# Altium footprint library Daxxn_Switches.PcbLib: 22 footprints (part 1 of 2)
Each footprint in its own frame and in the unit in brackets; x right, y up, seen from the top. Pads: shape width x height; smd on the part's side, far side on the other; paste and mask are expansions set on the pad; w line width, h text height; cw(c..) or ccw(c..) is an arc to the next point about the centre after c.
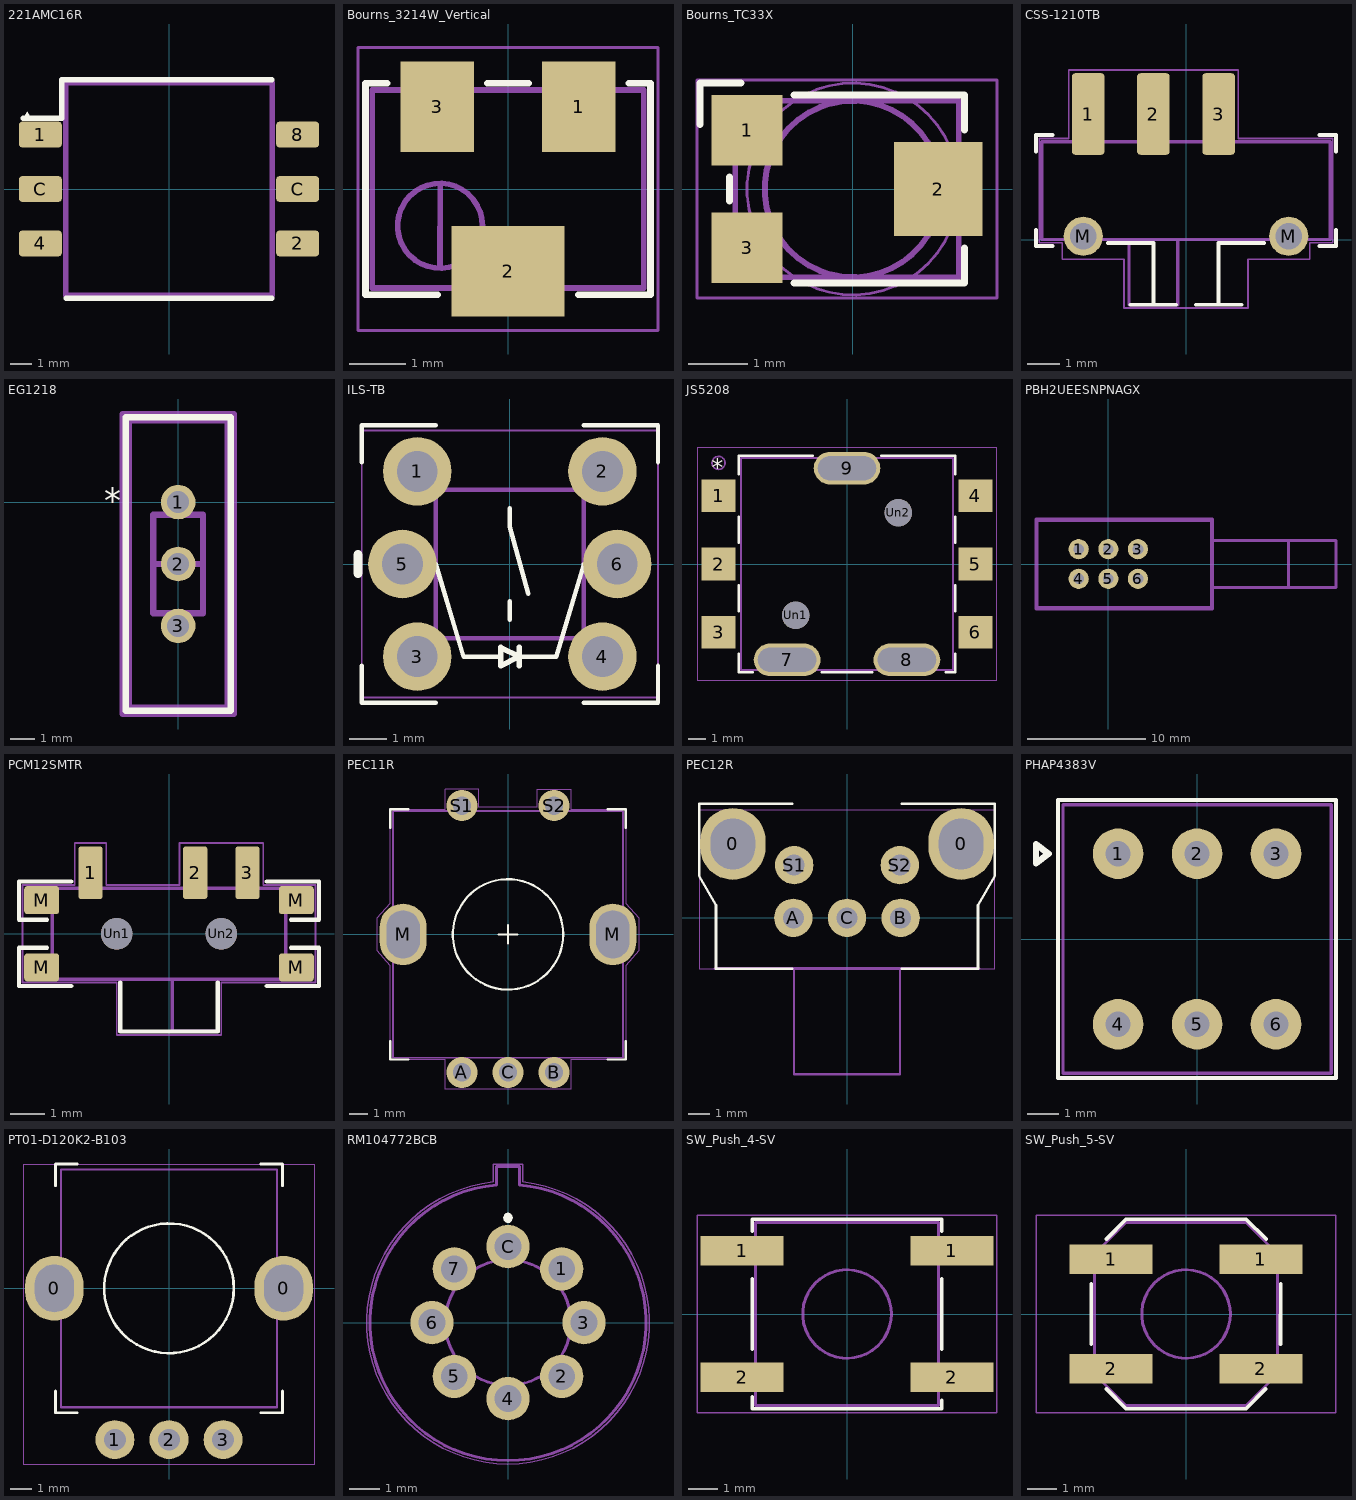
[diagram p0: the footprints below, top view; thin cyan lines are the x and y axes]

## 221AMC16R [mm]
pads (6):
  rrect25% 2x1.2 smd: 1(-6,2.54) 2(6,-2.54) 4(-6,-2.54) 8(6,2.54) C(-6,0) C(6,0)
F.SilkS:
  region: -6.425,3.3 -6.8,3.3 -6.625,3.6
  lines w0.254: -6.8,3.3 -5,3.3 -5,5.1 4.8,5.1 ; -4.8,-5.1 4.8,-5.1
F.Fab:
  lines w0.254: -4.825,-4.955 -4.825,4.955 4.825,4.955 4.825,-4.955 -4.825,-4.955
  text "'.Designator'" at -1.037,-0.535 h0.25

## Bourns_3214W_Vertical [mm]
pads (3):
  rect 1.3x1.6 smd: 1(1.25,1.45) 3(-1.25,1.45)
  rect 2x1.6 smd: 2(0,-1.45)
F.SilkS:
  lines w0.12: -2.14,1.87 -2.52,1.87 -2.52,-1.87 -1.24,-1.87 ; -0.36,1.87 0.36,1.87 ; 1.24,-1.87 2.52,-1.87 2.52,1.87 2.14,1.87
F.CrtYd:
  lines w0.05: -2.65,-2.5 -2.65,2.5 2.65,2.5 2.65,-2.5 -2.65,-2.5
F.Fab:
  circle w0.1: c-1.2,-0.65 r0.75
  lines w0.1: -2.4,-1.75 2.4,-1.75 2.4,1.75 -2.4,1.75 -2.4,-1.75 ; -1.2,-1.393 -1.199,0.092 -1.2,-1.393
  text "'.Designator'" at -1.888,-0.564 h0.6

## Bourns_TC33X [mm]
pads (3):
  rect 1.2x1.2 smd: 1(-1.8,1) 3(-1.8,-1)
  rect 1.5x1.6 smd: 2(1.45,0)
F.SilkS:
  lines w0.12: -2.6,1.1 -2.6,1.8 -1.9,1.8 ; -2.1,-0.2 -2.1,0.2 ; -1,-1.6 1.9,-1.6 1.9,-1 ; -1,1.6 1.9,1.6 1.9,1
Dwgs.User:
  circle w0.05: c0,0 r1.8
F.CrtYd:
  lines w0.05: -2.65,-1.85 -2.65,1.85 2.45,1.85 2.45,-1.85 -2.65,-1.85
F.Fab:
  circle w0.1: c0,0 r1.5
  lines w0.1: -2,-1.5 -2,0.75 -1.25,1.5 1.8,1.5 1.8,-1.5 -2,-1.5
  text "'.Designator'" at -2.833,-0.588 h0.7
Cmts.User:
  text "Wiper may be / anywhere within / circle shown" at -0.963,0.416 h0.15

## CSS-1210TB [mm]
pads (5):
  rrect20% 1x2.5 smd: 1(-3,3.85) 2(-1,3.85) 3(1,3.85)
  round 1.2 hole 0.8: M(-3.15,0.1) M(3.15,0.1)
F.SilkS:
  lines w0.12: -4.6,0.3 -4.6,-0.2 -4.1,-0.2 ; -4.6,2.7 -4.6,3.2 -4.1,3.2 ; -2.4,-0.1 -1,-0.1 -1,-2 ; -1.7,-2 -1,-2 ; -0.3,-2 -1,-2 ; 0.3,-2 1,-2 ; 1.7,-2 1,-2 ; 2.4,-0.1 1,-0.1 1,-2 ; 4.1,-0.2 4.6,-0.2 4.6,0.3 ; 4.1,3.2 4.6,3.2 4.6,2.7
F.CrtYd:
  lines w0.05: -4.5,-0.1 -4.5,3.1 -3.6,3.1 -3.6,5.2 1.6,5.2 1.6,3.1 4.5,3.1 4.5,-0.1 3.8,-0.1 3.8,-0.6 1.9,-0.6 1.9,-2.1 -1.9,-2.1 -1.9,-0.6 -3.8,-0.6 -3.8,-0.1 -4.5,-0.1
F.Fab:
  lines w0.1: -4.425,0 -4.425,3 4.425,3 4.425,0 -4.425,0 ; -1.75,-2 -1.75,0 -0.25,0 -0.25,-2 -1.75,-2
  text "'.Designator'" at -1.037,2.065 h0.25

## EG1218 [mil]
pads (3):
  round 55 hole 35: 1(0,0) 2(0,-98.43) 3(0,-196.85)
F.SilkS:
  lines w10: -83.5,-331.93 -83.5,135.07 83.5,135.07 83.5,-331.93 -83.5,-331.93
  text "*" at -117.64,-17.15 h39.37
F.CrtYd:
  lines w10: -88.5,-336.93 -88.5,140.07 88.5,140.07 88.5,-336.93 -88.5,-336.93
F.Fab:
  lines w10: -39.5,-176.93 -39.5,-19.93 39.5,-19.93 39.5,-176.93 ; -39.5,-176.93 -39.5,-98.43 39.5,-98.43 39.5,-176.93 ; -39.5,-176.93 39.5,-176.93 ; -39.5,-176.93 39.5,-176.93 ; -78.5,-326.93 -78.5,130.07 78.5,130.07 78.5,-326.93 -78.5,-326.93

## ILS-TB [mm]
pads (6):
  round 1.85 hole 1.1: 1(-2.5,2.5) 2(2.5,2.5) 3(-2.5,-2.5) 4(2.5,-2.5) 5(-2.9,0) 6(2.9,0)
F.SilkS:
  lines w0.12: -4,-2.75 -4,-3.75 -2,-3.75 ; -4,2.75 -4,3.75 -2,3.75 ; -2,0 -1.25,-2.5 -0.25,-2.5 ; 0,-1.5 0,-1 ; 0,1.5 0,1 0.5,-0.8 ; 0.25,-2.5 1.25,-2.5 2,0 ; 2,-3.75 4,-3.75 4,-2.75 ; 2,3.75 4,3.75 4,2.75
  lines w0.15: 0.25,-2.75 0.25,-2.25 ; -0.25,-2.75 0.25,-2.5 -0.25,-2.25 -0.25,-2.75
  lines w0.254: -4.1,-0.25 -4.1,0.25
F.CrtYd:
  lines w0.05: -4,-3.6 -4,3.6 4,3.6 4,-3.6 -4,-3.6
F.Fab:
  lines w0.12: -2,-2 -2,2 2,2 2,-2 -2,-2
  text "'.Designator'" at -4.047,-5.84 h1

## JS5208 [mm]
pads (11):
  rect 2x1.9 smd: 1(-7.5,4) 2(-7.5,0) 3(-7.5,-4) 4(7.5,4) 5(7.5,0) 6(7.5,-4)
  rrect100% 3.9x1.9 hole 1.4 slot 3.4 at 0 deg: 7(-3.5,-5.6) 8(3.5,-5.6) 9(0,5.6)
  round 1.6 hole 1.6: Un1(-3,-3) Un2(3,3)
F.SilkS:
  lines w0.12: -6.325,-5.234 -6.325,-6.325 -5.5,-6.325 ; -6.325,-2.767 -6.325,-1.234 ; -6.325,1.234 -6.325,2.767 ; -6.325,5.234 -6.325,6.325 -2,6.325 ; -1.5,-6.325 1.5,-6.325 ; 2,6.325 6.325,6.325 6.325,5.234 ; 5.75,-6.325 6.325,-6.325 6.325,-5.234 ; 6.325,-2.767 6.325,-1.234 ; 6.325,1.234 6.325,2.767
  text "*" at -7.898,5.154 h1
B.SilkS:
  circle w0.12: c-7.5,5.9 r0.381
F.CrtYd:
  lines w0.05: -8.763,-6.8 -8.763,6.8 8.763,6.8 8.763,-6.8 -8.763,-6.8
F.Fab:
  circle w0.1: c-7.506,5.905 r0.381
  lines w0.1: -6.198,-6.198 -6.198,6.198 6.198,6.198 6.198,-6.198 -6.198,-6.198
  text "'.Designator'" at -2.073,0.03 h0.5

## PBH2UEESNPNAGX [mm]
pads (6):
  round 1.7 hole 0.9: 1(-2.5,1.25) 2(0,1.25) 3(2.5,1.25) 4(-2.5,-1.25) 5(0,-1.25) 6(2.5,-1.25)
B.SilkS:
  lines w0.254: -1.55,-1.25 -0.95,-1.25 ; -1.55,1.25 -0.95,1.25 ; 0.95,-1.25 1.55,-1.25 ; 0.95,1.25 1.55,1.25
F.CrtYd:
  lines w0.254: -6.1,-3.8 -6.1,3.8 8.8,3.8 8.8,-3.8 -6.1,-3.8
F.Fab:
  lines w0.254: 15.2,-2 15.2,2 ; -6,-3.65 -6,3.65 2.5,3.65 8.7,3.65 8.7,-3.65 -6,-3.65 ; 8.7,-2 8.7,2 19.2,2 19.2,-2 8.7,-2
  text "'.Designator'" at -1.037,0.065 h0.25

## PCM12SMTR [mm]
pads (9):
  rrect20% 0.7x1.5 smd: 1(-2.25,1.75) 2(0.75,1.75) 3(2.25,1.75)
  rrect20% 1x0.8 smd: M(-3.65,-0.965) M(-3.65,0.965) M(3.65,-0.965) M(3.65,0.965)
  round 0.9 hole 0.9: Un1(-1.5,0) Un2(1.5,0)
F.SilkS:
  lines w0.12: -3.5,-0.4 -4.3,-0.4 -4.3,-1.5 -2.8,-1.5 ; -3.5,0.4 -4.3,0.4 -4.3,1.5 -2.8,1.5 ; -1.4,-1.4 -1.4,-2.8 1.4,-2.8 1.4,-1.4 ; 2.8,-1.5 4.3,-1.5 4.3,-0.4 3.5,-0.4 ; 2.8,1.5 4.3,1.5 4.3,0.4 3.5,0.4
F.CrtYd:
  lines w0.05: -4.2,-1.4 -1.5,-1.4 -1.5,-2.9 1.5,-2.9 1.5,-1.4 4.2,-1.4 4.2,1.4 2.7,1.4 2.7,2.6 0.3,2.6 0.3,1.4 -1.8,1.4 -1.8,2.6 -2.7,2.6 -2.7,1.4 -4.2,1.4 -4.2,-1.4
F.Fab:
  lines w0.1: -3.35,-1.3 -3.35,1.3 3.35,1.3 3.35,-1.3 -3.35,-1.3 ; 0.1,-2.8 0.1,-1.3 1.4,-1.3 1.4,-2.8 0.1,-2.8
  text "'.Designator'" at -1.037,0.565 h0.25

## PEC11R [mm]
pads (7):
  round 1.7 hole 1: A(-2.5,-7.5) B(2.5,-7.5) C(0,-7.5) S1(-2.5,7) S2(2.5,7)
  rrect100% 2.55x3.35 hole 2.6 slot 1.8 at 0 deg: M(-5.7,0) M(5.7,0)
F.SilkS:
  circle w0.12: c0,0 r3
  lines w0.12: -6.4,-5.8 -6.4,-6.8 -5.4,-6.8 ; -6.4,5.8 -6.4,6.8 -5.4,6.8 ; -0.5,0 0.5,0 ; 0,0 0,-0.5 0,0.5 ; 5.4,-6.8 6.4,-6.8 6.4,-5.8 ; 5.4,6.8 6.4,6.8 6.4,5.8
F.CrtYd:
  lines w0.05: -7.1,-0.9 -6.4,-1.7 -6.4,-6.8 -3.4,-6.8 -3.4,-8.4 3.4,-8.4 3.4,-6.8 6.4,-6.8 6.4,-1.7 7.1,-0.9 7.1,0.9 6.4,1.7 6.4,6.8 3.4,6.8 3.4,7.9 1.6,7.9 1.6,6.9 -1.6,6.9 -1.6,7.9 -3.4,7.9 -3.4,6.8 -6.4,6.8 -6.4,1.7 -7.1,0.9 -7.1,-0.9
F.Fab:
  lines w0.1: -6.25,-6.7 -6.25,6.7 6.25,6.7 6.25,-6.7 -6.25,-6.7
  text "'.Designator'" at -4.047,-2.14 h1

## PEC12R [mm]
pads (7):
  rrect100% 3.1x3.4 hole 2.4 slot 2.1 at 0 deg: 0(-5.4,3.5) 0(5.4,3.5)
  round 1.82 hole 1: A(-2.54,0) B(2.54,0) C(0,0) S1(-2.5,2.5) S2(2.5,2.5)
F.SilkS:
  lines w0.12: -2.6,-2.4 -6.2,-2.4 -6.2,0.6 -7,2 -7,5.4 -2.6,5.4 ; 2.6,-2.4 6.2,-2.4 6.2,0.6 7,2 7,5.4 2.6,5.4
F.CrtYd:
  lines w0.05: -7,-2.4 -7,5.1 7,5.1 7,-2.4 -7,-2.4 ; -2.5,-7.4 -2.5,-2.4 2.5,-2.4 2.5,-7.4 -2.5,-7.4
F.Fab:
  lines w0.1: -2.5,-7.4 -2.5,-2.4 2.5,-2.4 2.5,-7.4 -2.5,-7.4
  lines w0.15: -6.25,-2.4 6.25,-2.4
  text "'.Designator'" at -4.047,8.05 h1

## PHAP4383V [mm]
pads (6):
  round 1.6 hole 0.8: 1(-2.5,2.7) 2(0,2.7) 3(2.5,2.7) 4(-2.5,-2.7) 5(0,-2.7) 6(2.5,-2.7)
F.SilkS:
  lines w0.12: -4.4,-4.4 -4.4,4.4 4.4,4.4 4.4,-4.4 -4.4,-4.4
  lines w0.2: -5.1,2.4 -4.7,2.7 -5.1,3 -5.1,2.4
F.Fab:
  lines w0.1: -4.25,-4.25 -4.25,4.25 4.25,4.25 4.25,-4.25 -4.25,-4.25
  text "'.Designator'" at -3.073,-0.068 h0.75

## PT01-D120K2-B103 [mm]
pads (5):
  rrect100% 2.7x3 hole 2.2 slot 1.8 at 0 deg: 0(-5.3,0) 0(5.3,0)
  round 1.8 hole 1: 1(-2.5,-7) 2(0,-7) 3(2.5,-7)
F.SilkS:
  circle w0.12: c0,0 r3
  lines w0.12: -5.25,-4.75 -5.25,-5.75 -4.25,-5.75 ; -5.25,4.75 -5.25,5.75 -4.25,5.75 ; 4.25,-5.75 5.25,-5.75 5.25,-4.75 ; 4.25,5.75 5.25,5.75 5.25,4.75
F.CrtYd:
  lines w0.05: -6.75,-8.128 -6.75,5.715 6.75,5.715 6.75,-8.128 -6.75,-8.128
F.Fab:
  lines w0.1: -5,-5.5 -5,5.5 5,5.5 5,-5.5 -5,-5.5
  text "'.Designator'" at -4.047,8.66 h1

## RM104772BCB [mm]
pads (8):
  round 1.45 hole 0.9: 1(1.796,1.796) 2(1.796,-1.796) 3(2.54,0) 4(0,-2.54) 5(-1.796,-1.796) 6(-2.54,0) 7(-1.796,1.796) C(0,2.54)
F.SilkS:
  circle w0: c0,3.5 r0.15
  region: 0.115,3.615 0.162,3.5 0.115,3.385 0,3.338 -0.115,3.385 -0.162,3.5 -0.115,3.615 0,3.662
F.CrtYd:
  lines w0.05: -0.5,4.7 -0.5,5.3 0.5,5.3 0.5,4.7 cw(c0,0) -0.5,4.7
F.Fab:
  circle w0.1: c0,0 r2.1
  lines w0.1: -0.38,4.6 -0.38,5.21 0.38,5.21 0.38,4.6 cw(c0,0) -0.38,4.6
  text "'.Designator'" at -0.999,-0.098 h0.25

## SW_Push_4-SV [mm]
pads (4):
  rect 2.8x1 smd: 1(-3.556,2.15) 1(3.556,2.15) 2(-3.556,-2.15) 2(3.556,-2.15)
F.SilkS:
  lines w0.12: -3.21,-2.8 -3.21,-3.21 3.21,-3.21 3.21,-2.93 ; -3.21,-1.2 -3.21,1.2 ; -3.21,2.8 -3.21,3.21 3.21,3.21 3.21,2.8 ; 3.21,-1.2 3.21,1.2
F.CrtYd:
  lines w0.05: -5.08,-3.35 5.08,-3.35 5.08,3.35 -5.08,3.35 -5.08,-3.35
F.Fab:
  circle w0.1: c0,0 r1.5
  lines w0.1: -3.1,-3.1 -3.1,3.1 3.1,3.1 3.1,-3.1 -3.1,-3.1
  text "'.Designator'" at -4.047,-0.84 h1

## SW_Push_5-SV [mm]
pads (4):
  rect 2.8x1 smd: 1(-2.54,1.85) 1(2.54,1.85) 2(-2.54,-1.85) 2(2.54,-1.85)
F.SilkS:
  lines w0.12: -3.21,-1.016 -3.21,1.016 ; -2.692,-2.54 -2.032,-3.21 2.032,-3.21 2.692,-2.54 ; -2.692,2.54 -2.032,3.21 2.032,3.21 2.718,2.54 ; 3.2,-1.016 3.21,1.016
F.CrtYd:
  lines w0.05: -5.08,-3.35 5.08,-3.35 5.08,3.35 -5.08,3.35 -5.08,-3.35
F.Fab:
  circle w0.1: c0,0 r1.5
  lines w0.1: -3.1,-2.032 -3.1,2.032 -2.032,3.1 2.032,3.1 3.1,2.032 3.1,-2.032 2.032,-3.1 -2.032,-3.1 -3.1,-2.032
  text "'.Designator'" at -4.047,-0.84 h1